# Altium schematic symbol library ACS711KEXLT-15AB-T.SchLib: 1 symbol
Pins are listed as number, name and electrical type; pins without a type are passive.

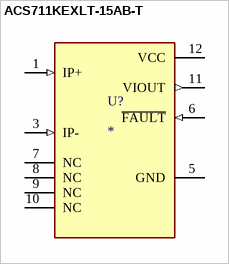
[diagram p0: symbol ACS711KEXLT-15AB-T]

## ACS711KEXLT-15AB-T
designator U?
Current Sensor 15.5A 1 Channel Hall Effect, Open Loop Bidirectional 12-PowerWFQFN; MF: Allegro MicroSystems LLC; MP: ACS711KEXLT-15AB-T; SnapEDA_Link: https://www.snapeda.com/parts/ACS711KEXLT-15AB-T/Allegro/view-part/?ref=snap; Package: PowerWFQFN-12 Allegro MicroSystems LLC; Value: *; Check_prices: https://www.snapeda.com/parts/ACS711KEXLT-15AB-T/Allegro/view-part/?ref=eda
footprint XDCR_ACS711KEXLT-15AB-T
pins: 1 IP+ (in), 3 IP- (in), 5 GND (power), 6 ~{FAULT} (in), 7 NC, 8 NC, 9 NC, 10 NC, 11 VIOUT (out), 12 VCC (power)